# EAGLE library part DPDT_SMT_SW (library IotaWatt_parts)
DPDT smt Switch C&K JS202011SCQN Digikey 401-2002-1-ND
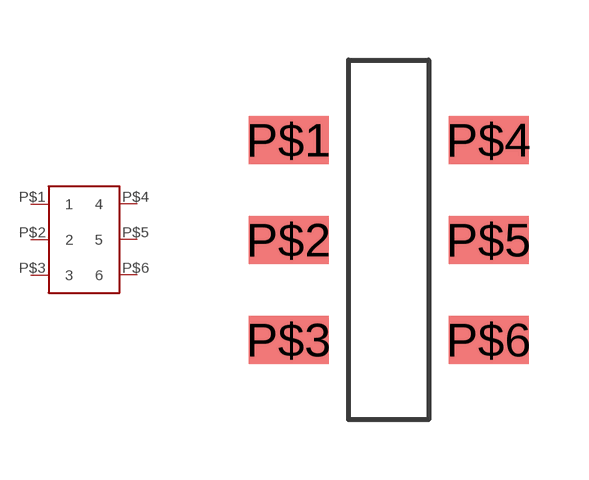
[diagram p3: symbol with the pads of JS202011SCQN; footprint JS202011SCQN]

Designator prefix -

## DPDT_SMT_SW  [JS202011SCQN]
P$1  1
P$2  2
P$3  3
P$4  4
P$5  5
P$6  6

## Footprint JS202011SCQN (pad centres in mm)
DPDT smt switch
smd 2 x 1.2: P$1 -2.5,2.5; P$2 -2.5,0; P$3 -2.5,-2.5; P$4 2.5,2.5; P$5 2.5,0; P$6 2.5,-2.5